# EAGLE library part 8P (library con-degson)
DEGSON DG55 CONNECTOR
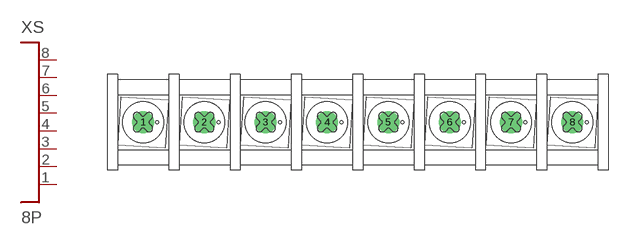
[diagram p2: symbol with the pads of DG55CB-8P-1; footprint DG55CB-8P-1]

Designator prefix XS

## 8P  [DG55CB-8P-1]
1  P$1
2  P$2
3  P$3
4  P$4
5  P$5
6  P$6
7  P$7
8  P$8

## Footprint DG55CB-8P-1 (pad centres in mm)
DG55
drill 1.8 pad 3.6: 1 -35,0; 2 -25,0; 3 -15,0; 4 -5,0; 5 5,0; 6 15,0; 7 25,0; 8 35,0